# Altium schematic symbol library 磁珠滤波器emi优化.SchLib: 1 symbol
Pins are listed as number, name and electrical type; pins without a type are passive.

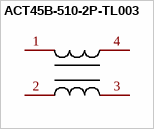
[diagram p0: symbol ACT45B-510-2P-TL003]

## ACT45B-510-2P-TL003
designator L?  (value not drawn)
Manufacturer: TDK; Add into BOM: yes; Number of Lines: 2; Withstanding Voltage: 250V@2Secs; Current Rating: 200mA; Inductance @ Frequency: 51uH@100kHz; Voltage Rating - DC: 50V; Impedance @ Frequency: 2.8kΩ@10MHz; DC Resistance (DCR): 1Ω; Name: ACT45B-510-2P-TL003; Symbol: ACT45B-510-2P-TL003; Device: ACT45B-510-2P-TL003; LCSC Part Name: 两路 4532共模滤波器 阻抗2.8kΩ@10MHz; Supplier Part: C76584; Manufacturer Part: ACT45B-510-2P-TL003; Supplier Footprint: SMD,4.5x3.2mm; JLCPCB Part Class: Extended Part; Datasheet: https://atta.szlcsc.com/upload/public/pdf/source/20160918/1474166842057.pdf; Supplier: LCSC; Convert to PCB: yes; Operating Temperature: -40℃~+150℃
footprint IND-SMD_4P-L4.5-W3.2-TL
3D model IND-SMD_4P-L4.5-W3.2-H2.6
pins: 1, 2, 3, 4